# Altium footprint library NC7NZ34.PcbLib: 1 footprints
Each footprint in its own frame and in the unit in brackets; x right, y up, seen from the top. Pads: shape width x height; smd on the part's side, far side on the other; paste and mask are expansions set on the pad; w line width, h text height; cw(c..) or ccw(c..) is an arc to the next point about the centre after c.
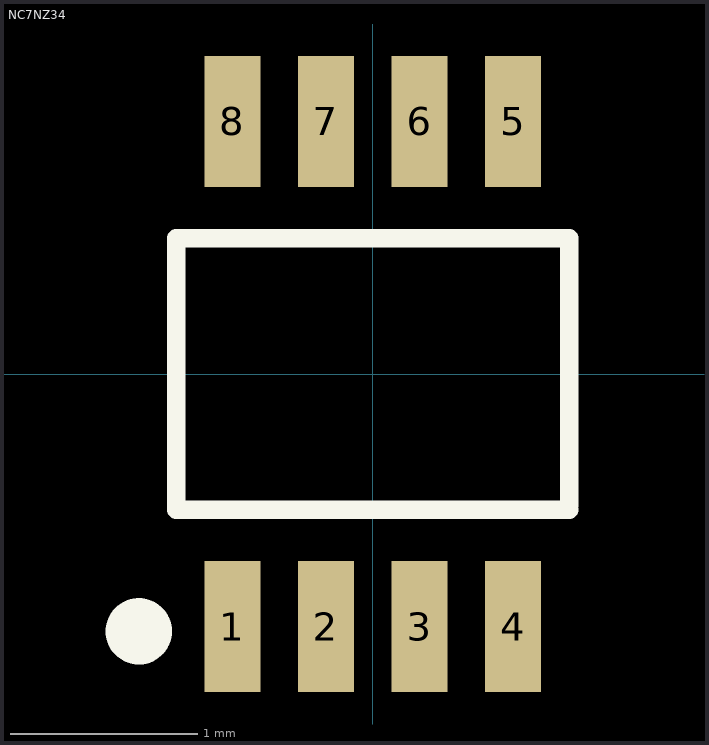
[diagram p0: the footprint, top view; thin cyan lines are the x and y axes]

## NC7NZ34 [mm]
pads (8):
  rect 0.3x0.7 smd: 1(-0.75,-1.35) 2(-0.25,-1.35) 3(0.25,-1.35) 4(0.75,-1.35) 5(0.75,1.35) 6(0.25,1.35) 7(-0.25,1.35) 8(-0.75,1.35)
Top Overlay:
  circle w0.254: c-1.25,-1.375 r0.05
  lines w0.1: 1.05,-0.725 -1.05,-0.725 -1.05,0.725 1.05,0.725 1.05,-0.7
3D body: height 0.9, standoff 0, extent -1.05,-0.725 1.05,0.725